# EAGLE library part 2X5 (library connectors)
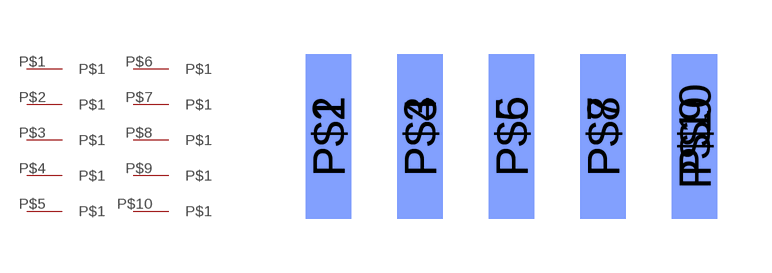
[diagram p0: symbol with the pads of 2X5; footprint 2X5]

Designator prefix -; gates G$1=PAD G$2=PAD G$3=PAD G$4=PAD G$5=PAD G$6=PAD G$7=PAD G$8=PAD G$9=PAD G$10=PAD

## 2X5  [2X5]
P$1  G$1:P$1
P$2  G$2:P$1
P$3  G$3:P$1
P$4  G$4:P$1
P$5  G$5:P$1
P$6  G$6:P$1
P$7  G$7:P$1
P$8  G$8:P$1
P$9  G$9:P$1
P$10  G$10:P$1

## Footprint 2X5 (pad centres in mm)
smd 1.27 x 4.572: P$1 -5.08,0; P$3 -2.54,0; P$5 0,0; P$7 2.54,0; P$9 5.08,0
smd 1.27 x 4.572 bottom: P$2 -5.08,0; P$4 -2.54,0; P$6 0,0; P$8 2.54,0; P$10 5.08,0